# EAGLE library part WM-N-BM-09 (library Spark)
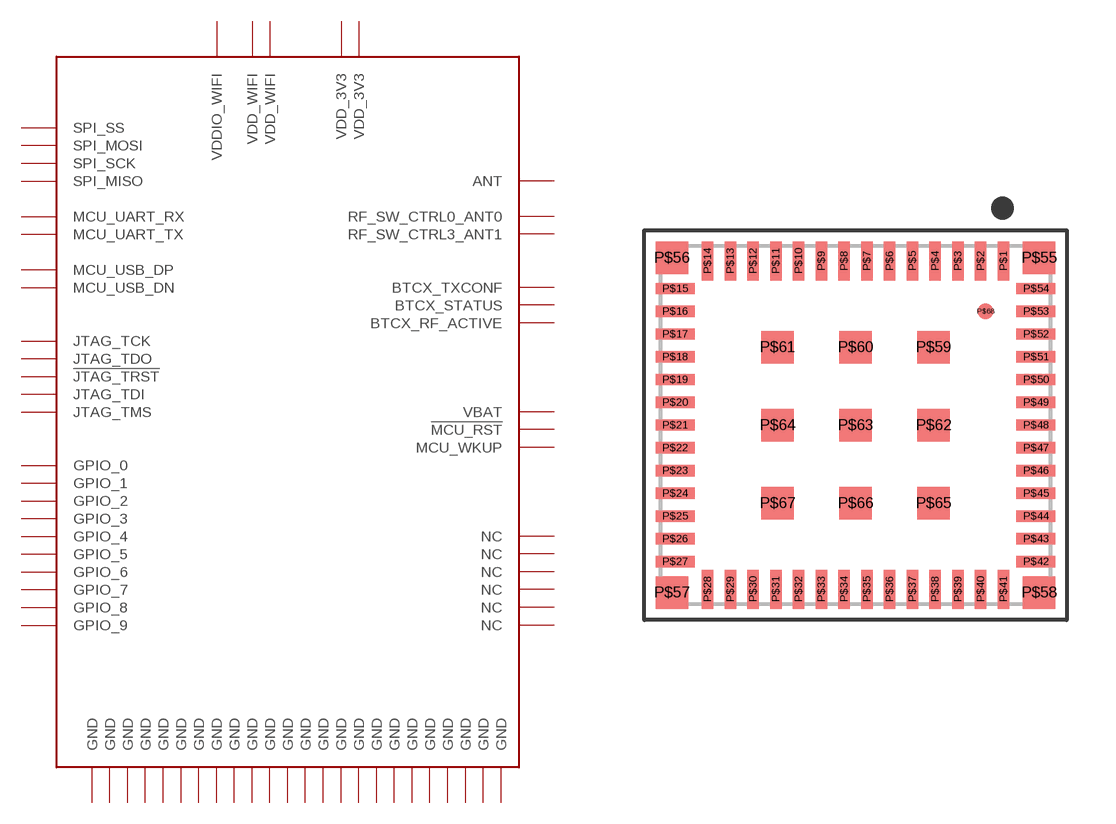
[diagram p11: symbol with the pads of WM-N-BM-09; footprint WM-N-BM-09]

Designator prefix U

## WM-N-BM-09  [WM-N-BM-09]
P$1  GPIO_7
P$2  GPIO_6
P$3  GPIO_5
P$4  GPIO_4
P$5  GPIO_3
P$6  GPIO_2
P$7  GPIO_1
P$8  GPIO_0
P$9  BTCX_RF_ACTIVE
P$10  BTCX_STATUS
P$11  BTCX_TXCONF
P$12  RF_SW_CTRL3_ANT1
P$13  RF_SW_CTRL0_ANT0
P$14  GND
P$15  ANT
P$16  GND
P$17  GND
P$18  GND
P$19  VDD_WIFI
P$20  VDD_WIFI
P$21  GND
P$22  SPI_SS
P$23  SPI_MOSI
P$24  SPI_SCK
P$25  SPI_MISO
P$26  !MCU_RST
P$27  MCU_WKUP
P$28  VBAT
P$29  GND
P$30  GND
P$31  NC
P$32  NC
P$33  NC
P$34  NC
P$35  NC
P$36  NC
P$37  GND
P$38  MCU_UART_RX
P$39  MCU_UART_TX
P$40  JTAG_TCK
P$41  JTAG_TDO
P$42  !JTAG_TRST
P$43  JTAG_TDI
P$44  JTAG_TMS
P$45  GND
P$46  VDD_3V3
P$47  VDD_3V3
P$48  GND
P$49  VDDIO_WIFI
P$50  GND
P$51  MCU_USB_DP
P$52  MCU_USB_DN
P$53  GPIO_9
P$54  GPIO_8
P$55  GND
P$56  GND
P$57  GND
P$58  GND
P$59  GND
P$60  GND
P$61  GND
P$62  GND
P$63  GND
P$64  GND
P$65  GND
P$66  GND
P$67  GND

## Footprint WM-N-BM-09 (pad centres in mm)
smd 0.35 x 1.2: P$1 4.55,5.05; P$2 3.85,5.05; P$3 3.15,5.05; P$4 2.45,5.05; P$5 1.75,5.05; P$6 1.05,5.05; P$7 0.35,5.05; P$8 -0.35,5.05; P$9 -1.05,5.05; P$10 -1.75,5.05; P$11 -2.45,5.05; P$12 -3.15,5.05; P$13 -3.85,5.05; P$14 -4.55,5.05; P$28 -4.55,-5.05; P$29 -3.85,-5.05; P$30 -3.15,-5.05; P$31 -2.45,-5.05; P$32 -1.75,-5.05; P$33 -1.05,-5.05; P$34 -0.35,-5.05; P$35 0.35,-5.05; P$36 1.05,-5.05; P$37 1.75,-5.05; P$38 2.45,-5.05; P$39 3.15,-5.05; P$40 3.85,-5.05; P$41 4.55,-5.05
smd 1.2 x 0.35: P$15 -5.55,4.2; P$16 -5.55,3.5; P$17 -5.55,2.8; P$18 -5.55,2.1; P$19 -5.55,1.4; P$20 -5.55,0.7; P$21 -5.55,0; P$22 -5.55,-0.7; P$23 -5.55,-1.4; P$24 -5.55,-2.1; P$25 -5.55,-2.8; P$26 -5.55,-3.5; P$27 -5.55,-4.2; P$42 5.55,-4.2; P$43 5.55,-3.5; P$44 5.55,-2.8; P$45 5.55,-2.1; P$46 5.55,-1.4; P$47 5.55,-0.7; P$48 5.55,0; P$49 5.55,0.7; P$50 5.55,1.4; P$51 5.55,2.1; P$52 5.55,2.8; P$53 5.55,3.5; P$54 5.55,4.2
smd 1 x 1: P$55 5.65,5.15; P$56 -5.65,5.15; P$57 -5.65,-5.15; P$58 5.65,-5.15; P$59 2.4,2.4; P$60 0,2.4; P$61 -2.4,2.4; P$62 2.4,0; P$63 0,0; P$64 -2.4,0; P$65 2.4,-2.4; P$66 0,-2.4; P$67 -2.4,-2.4
smd 0.5 x 0.5: P$68 4,3.5